# Altium schematic symbol library SCH - MCU - NUVOTON - NUVOTON M484KIDAE.SchLib: 1 symbol
Pins are listed as number, name and electrical type; pins without a type are passive.

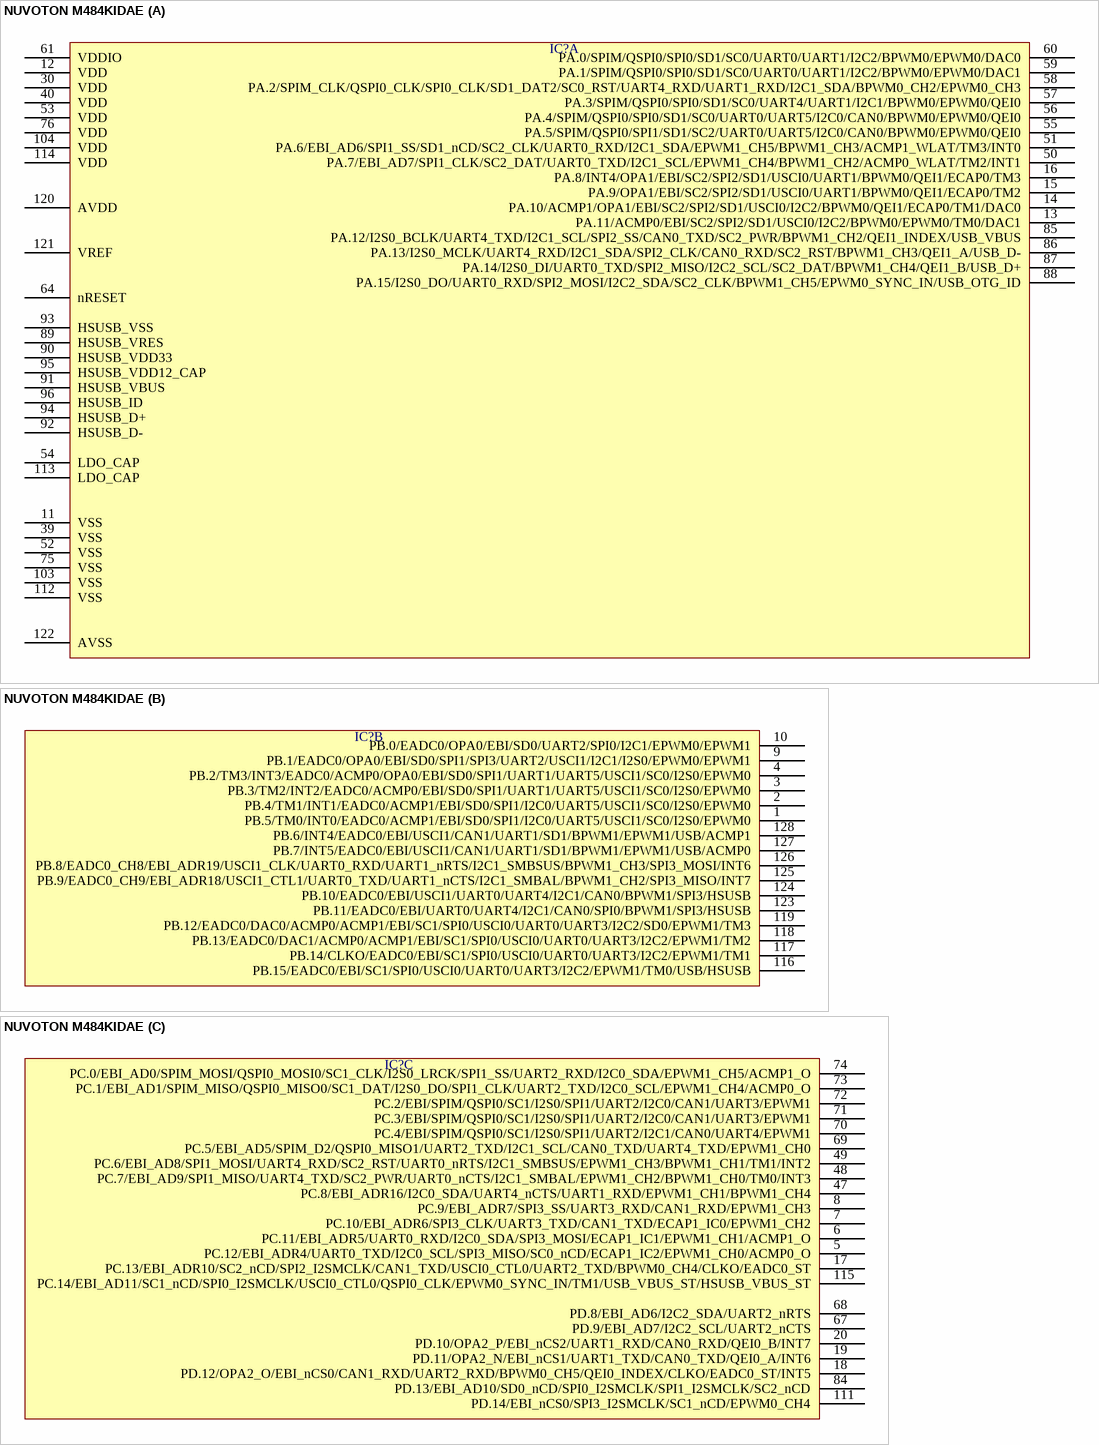
[diagram p0: symbol NUVOTON M484KIDAE]

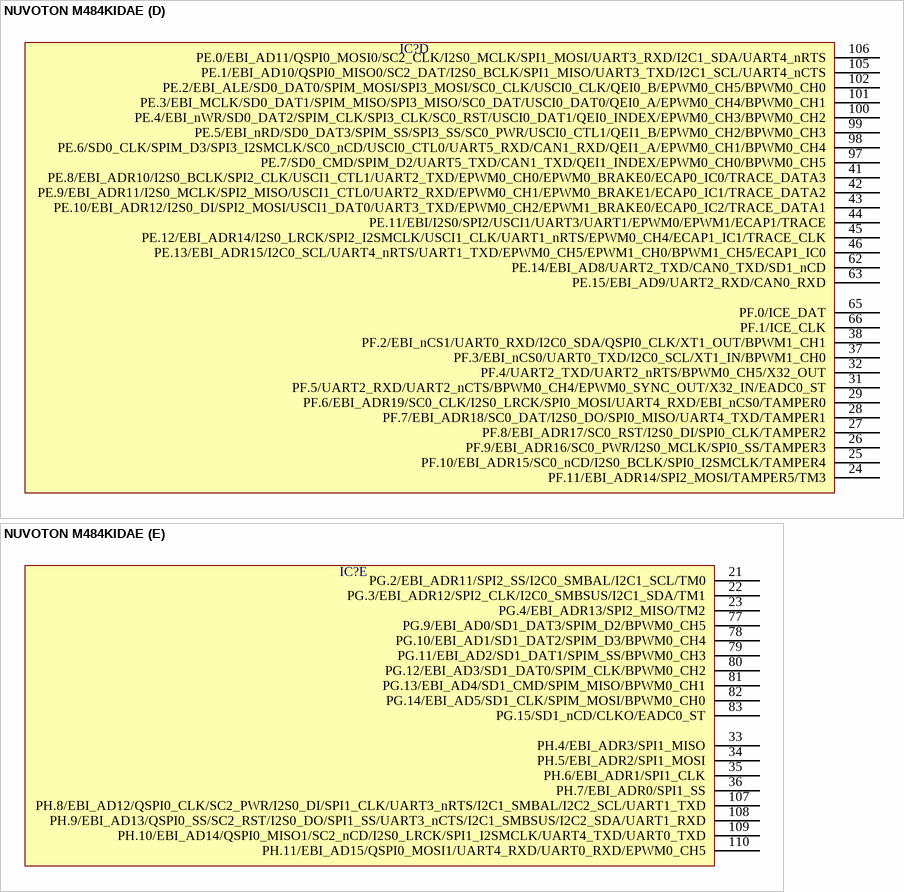
[diagram p1: symbol NUVOTON M484KIDAE]

## NUVOTON M484KIDAE
designator IC?  (value not drawn)
part A pins: 11 VSS, 12 VDD, 13 PA.11/ACMP0/EBI/SC2/SPI2/SD1/USCI0/I2C2/BPWM0/EPWM0/TM0/DAC1, 14 PA.10/ACMP1/OPA1/EBI/SC2/SPI2/SD1/USCI0/I2C2/BPWM0/QEI1/ECAP0/TM1/DAC0, 15 PA.9/OPA1/EBI/SC2/SPI2/SD1/USCI0/UART1/BPWM0/QEI1/ECAP0/TM2, 16 PA.8/INT4/OPA1/EBI/SC2/SPI2/SD1/USCI0/UART1/BPWM0/QEI1/ECAP0/TM3, 30 VDD, 39 VSS, 40 VDD, 50 PA.7/EBI_AD7/SPI1_CLK/SC2_DAT/UART0_TXD/I2C1_SCL/EPWM1_CH4/BPWM1_CH2/ACMP0_WLAT/TM2/INT1, 51 PA.6/EBI_AD6/SPI1_SS/SD1_nCD/SC2_CLK/UART0_RXD/I2C1_SDA/EPWM1_CH5/BPWM1_CH3/ACMP1_WLAT/TM3/INT0, 52 VSS, 53 VDD, 54 LDO_CAP, 55 PA.5/SPIM/QSPI0/SPI1/SD1/SC2/UART0/UART5/I2C0/CAN0/BPWM0/EPWM0/QEI0, 56 PA.4/SPIM/QSPI0/SPI0/SD1/SC0/UART0/UART5/I2C0/CAN0/BPWM0/EPWM0/QEI0, 57 PA.3/SPIM/QSPI0/SPI0/SD1/SC0/UART4/UART1/I2C1/BPWM0/EPWM0/QEI0, 58 PA.2/SPIM_CLK/QSPI0_CLK/SPI0_CLK/SD1_DAT2/SC0_RST/UART4_RXD/UART1_RXD/I2C1_SDA/BPWM0_CH2/EPWM0_CH3, 59 PA.1/SPIM/QSPI0/SPI0/SD1/SC0/UART0/UART1/I2C2/BPWM0/EPWM0/DAC1, 60 PA.0/SPIM/QSPI0/SPI0/SD1/SC0/UART0/UART1/I2C2/BPWM0/EPWM0/DAC0, 61 VDDIO, 64 nRESET, 75 VSS, 76 VDD, 85 PA.12/I2S0_BCLK/UART4_TXD/I2C1_SCL/SPI2_SS/CAN0_TXD/SC2_PWR/BPWM1_CH2/QEI1_INDEX/USB_VBUS, 86 PA.13/I2S0_MCLK/UART4_RXD/I2C1_SDA/SPI2_CLK/CAN0_RXD/SC2_RST/BPWM1_CH3/QEI1_A/USB_D-, 87 PA.14/I2S0_DI/UART0_TXD/SPI2_MISO/I2C2_SCL/SC2_DAT/BPWM1_CH4/QEI1_B/USB_D+, 88 PA.15/I2S0_DO/UART0_RXD/SPI2_MOSI/I2C2_SDA/SC2_CLK/BPWM1_CH5/EPWM0_SYNC_IN/USB_OTG_ID, 89 HSUSB_VRES, 90 HSUSB_VDD33, 91 HSUSB_VBUS, 92 HSUSB_D-, 93 HSUSB_VSS, 94 HSUSB_D+, 95 HSUSB_VDD12_CAP, 96 HSUSB_ID, 103 VSS, 104 VDD, 112 VSS, 113 LDO_CAP, 114 VDD, 120 AVDD, 121 VREF, 122 AVSS
part B pins: 1 PB.5/TM0/INT0/EADC0/ACMP1/EBI/SD0/SPI1/I2C0/UART5/USCI1/SC0/I2S0/EPWM0, 2 PB.4/TM1/INT1/EADC0/ACMP1/EBI/SD0/SPI1/I2C0/UART5/USCI1/SC0/I2S0/EPWM0, 3 PB.3/TM2/INT2/EADC0/ACMP0/EBI/SD0/SPI1/UART1/UART5/USCI1/SC0/I2S0/EPWM0, 4 PB.2/TM3/INT3/EADC0/ACMP0/OPA0/EBI/SD0/SPI1/UART1/UART5/USCI1/SC0/I2S0/EPWM0, 9 PB.1/EADC0/OPA0/EBI/SD0/SPI1/SPI3/UART2/USCI1/I2C1/I2S0/EPWM0/EPWM1, 10 PB.0/EADC0/OPA0/EBI/SD0/UART2/SPI0/I2C1/EPWM0/EPWM1, 116 PB.15/EADC0/EBI/SC1/SPI0/USCI0/UART0/UART3/I2C2/EPWM1/TM0/USB/HSUSB, 117 PB.14/CLKO/EADC0/EBI/SC1/SPI0/USCI0/UART0/UART3/I2C2/EPWM1/TM1, 118 PB.13/EADC0/DAC1/ACMP0/ACMP1/EBI/SC1/SPI0/USCI0/UART0/UART3/I2C2/EPWM1/TM2, 119 PB.12/EADC0/DAC0/ACMP0/ACMP1/EBI/SC1/SPI0/USCI0/UART0/UART3/I2C2/SD0/EPWM1/TM3, 123 PB.11/EADC0/EBI/UART0/UART4/I2C1/CAN0/SPI0/BPWM1/SPI3/HSUSB, 124 PB.10/EADC0/EBI/USCI1/UART0/UART4/I2C1/CAN0/BPWM1/SPI3/HSUSB, 125 PB.9/EADC0_CH9/EBI_ADR18/USCI1_CTL1/UART0_TXD/UART1_nCTS/I2C1_SMBAL/BPWM1_CH2/SPI3_MISO/INT7, 126 PB.8/EADC0_CH8/EBI_ADR19/USCI1_CLK/UART0_RXD/UART1_nRTS/I2C1_SMBSUS/BPWM1_CH3/SPI3_MOSI/INT6, 127 PB.7/INT5/EADC0/EBI/USCI1/CAN1/UART1/SD1/BPWM1/EPWM1/USB/ACMP0, 128 PB.6/INT4/EADC0/EBI/USCI1/CAN1/UART1/SD1/BPWM1/EPWM1/USB/ACMP1
part C pins: 5 PC.12/EBI_ADR4/UART0_TXD/I2C0_SCL/SPI3_MISO/SC0_nCD/ECAP1_IC2/EPWM1_CH0/ACMP0_O, 6 PC.11/EBI_ADR5/UART0_RXD/I2C0_SDA/SPI3_MOSI/ECAP1_IC1/EPWM1_CH1/ACMP1_O, 7 PC.10/EBI_ADR6/SPI3_CLK/UART3_TXD/CAN1_TXD/ECAP1_IC0/EPWM1_CH2, 8 PC.9/EBI_ADR7/SPI3_SS/UART3_RXD/CAN1_RXD/EPWM1_CH3, 17 PC.13/EBI_ADR10/SC2_nCD/SPI2_I2SMCLK/CAN1_TXD/USCI0_CTL0/UART2_TXD/BPWM0_CH4/CLKO/EADC0_ST, 18 PD.12/OPA2_O/EBI_nCS0/CAN1_RXD/UART2_RXD/BPWM0_CH5/QEI0_INDEX/CLKO/EADC0_ST/INT5, 19 PD.11/OPA2_N/EBI_nCS1/UART1_TXD/CAN0_TXD/QEI0_A/INT6, 20 PD.10/OPA2_P/EBI_nCS2/UART1_RXD/CAN0_RXD/QEI0_B/INT7, 47 PC.8/EBI_ADR16/I2C0_SDA/UART4_nCTS/UART1_RXD/EPWM1_CH1/BPWM1_CH4, 48 PC.7/EBI_AD9/SPI1_MISO/UART4_TXD/SC2_PWR/UART0_nCTS/I2C1_SMBAL/EPWM1_CH2/BPWM1_CH0/TM0/INT3, 49 PC.6/EBI_AD8/SPI1_MOSI/UART4_RXD/SC2_RST/UART0_nRTS/I2C1_SMBSUS/EPWM1_CH3/BPWM1_CH1/TM1/INT2, 67 PD.9/EBI_AD7/I2C2_SCL/UART2_nCTS, 68 PD.8/EBI_AD6/I2C2_SDA/UART2_nRTS, 69 PC.5/EBI_AD5/SPIM_D2/QSPI0_MISO1/UART2_TXD/I2C1_SCL/CAN0_TXD/UART4_TXD/EPWM1_CH0, 70 PC.4/EBI/SPIM/QSPI0/SC1/I2S0/SPI1/UART2/I2C1/CAN0/UART4/EPWM1, 71 PC.3/EBI/SPIM/QSPI0/SC1/I2S0/SPI1/UART2/I2C0/CAN1/UART3/EPWM1, 72 PC.2/EBI/SPIM/QSPI0/SC1/I2S0/SPI1/UART2/I2C0/CAN1/UART3/EPWM1, 73 PC.1/EBI_AD1/SPIM_MISO/QSPI0_MISO0/SC1_DAT/I2S0_DO/SPI1_CLK/UART2_TXD/I2C0_SCL/EPWM1_CH4/ACMP0_O, 74 PC.0/EBI_AD0/SPIM_MOSI/QSPI0_MOSI0/SC1_CLK/I2S0_LRCK/SPI1_SS/UART2_RXD/I2C0_SDA/EPWM1_CH5/ACMP1_O, 84 PD.13/EBI_AD10/SD0_nCD/SPI0_I2SMCLK/SPI1_I2SMCLK/SC2_nCD, 111 PD.14/EBI_nCS0/SPI3_I2SMCLK/SC1_nCD/EPWM0_CH4, 115 PC.14/EBI_AD11/SC1_nCD/SPI0_I2SMCLK/USCI0_CTL0/QSPI0_CLK/EPWM0_SYNC_IN/TM1/USB_VBUS_ST/HSUSB_VBUS_ST
part D pins: 24 PF.11/EBI_ADR14/SPI2_MOSI/TAMPER5/TM3, 25 PF.10/EBI_ADR15/SC0_nCD/I2S0_BCLK/SPI0_I2SMCLK/TAMPER4, 26 PF.9/EBI_ADR16/SC0_PWR/I2S0_MCLK/SPI0_SS/TAMPER3, 27 PF.8/EBI_ADR17/SC0_RST/I2S0_DI/SPI0_CLK/TAMPER2, 28 PF.7/EBI_ADR18/SC0_DAT/I2S0_DO/SPI0_MISO/UART4_TXD/TAMPER1, 29 PF.6/EBI_ADR19/SC0_CLK/I2S0_LRCK/SPI0_MOSI/UART4_RXD/EBI_nCS0/TAMPER0, 31 PF.5/UART2_RXD/UART2_nCTS/BPWM0_CH4/EPWM0_SYNC_OUT/X32_IN/EADC0_ST, 32 PF.4/UART2_TXD/UART2_nRTS/BPWM0_CH5/X32_OUT, 37 PF.3/EBI_nCS0/UART0_TXD/I2C0_SCL/XT1_IN/BPWM1_CH0, 38 PF.2/EBI_nCS1/UART0_RXD/I2C0_SDA/QSPI0_CLK/XT1_OUT/BPWM1_CH1, 41 PE.8/EBI_ADR10/I2S0_BCLK/SPI2_CLK/USCI1_CTL1/UART2_TXD/EPWM0_CH0/EPWM0_BRAKE0/ECAP0_IC0/TRACE_DATA3, 42 PE.9/EBI_ADR11/I2S0_MCLK/SPI2_MISO/USCI1_CTL0/UART2_RXD/EPWM0_CH1/EPWM0_BRAKE1/ECAP0_IC1/TRACE_DATA2, 43 PE.10/EBI_ADR12/I2S0_DI/SPI2_MOSI/USCI1_DAT0/UART3_TXD/EPWM0_CH2/EPWM1_BRAKE0/ECAP0_IC2/TRACE_DATA1, 44 PE.11/EBI/I2S0/SPI2/USCI1/UART3/UART1/EPWM0/EPWM1/ECAP1/TRACE, 45 PE.12/EBI_ADR14/I2S0_LRCK/SPI2_I2SMCLK/USCI1_CLK/UART1_nRTS/EPWM0_CH4/ECAP1_IC1/TRACE_CLK, 46 PE.13/EBI_ADR15/I2C0_SCL/UART4_nRTS/UART1_TXD/EPWM0_CH5/EPWM1_CH0/BPWM1_CH5/ECAP1_IC0, 62 PE.14/EBI_AD8/UART2_TXD/CAN0_TXD/SD1_nCD, 63 PE.15/EBI_AD9/UART2_RXD/CAN0_RXD, 65 PF.0/ICE_DAT, 66 PF.1/ICE_CLK, 97 PE.7/SD0_CMD/SPIM_D2/UART5_TXD/CAN1_TXD/QEI1_INDEX/EPWM0_CH0/BPWM0_CH5, 98 PE.6/SD0_CLK/SPIM_D3/SPI3_I2SMCLK/SC0_nCD/USCI0_CTL0/UART5_RXD/CAN1_RXD/QEI1_A/EPWM0_CH1/BPWM0_CH4, 99 PE.5/EBI_nRD/SD0_DAT3/SPIM_SS/SPI3_SS/SC0_PWR/USCI0_CTL1/QEI1_B/EPWM0_CH2/BPWM0_CH3, 100 PE.4/EBI_nWR/SD0_DAT2/SPIM_CLK/SPI3_CLK/SC0_RST/USCI0_DAT1/QEI0_INDEX/EPWM0_CH3/BPWM0_CH2, 101 PE.3/EBI_MCLK/SD0_DAT1/SPIM_MISO/SPI3_MISO/SC0_DAT/USCI0_DAT0/QEI0_A/EPWM0_CH4/BPWM0_CH1, 102 PE.2/EBI_ALE/SD0_DAT0/SPIM_MOSI/SPI3_MOSI/SC0_CLK/USCI0_CLK/QEI0_B/EPWM0_CH5/BPWM0_CH0, 105 PE.1/EBI_AD10/QSPI0_MISO0/SC2_DAT/I2S0_BCLK/SPI1_MISO/UART3_TXD/I2C1_SCL/UART4_nCTS, 106 PE.0/EBI_AD11/QSPI0_MOSI0/SC2_CLK/I2S0_MCLK/SPI1_MOSI/UART3_RXD/I2C1_SDA/UART4_nRTS
part E pins: 21 PG.2/EBI_ADR11/SPI2_SS/I2C0_SMBAL/I2C1_SCL/TM0, 22 PG.3/EBI_ADR12/SPI2_CLK/I2C0_SMBSUS/I2C1_SDA/TM1, 23 PG.4/EBI_ADR13/SPI2_MISO/TM2, 33 PH.4/EBI_ADR3/SPI1_MISO, 34 PH.5/EBI_ADR2/SPI1_MOSI, 35 PH.6/EBI_ADR1/SPI1_CLK, 36 PH.7/EBI_ADR0/SPI1_SS, 77 PG.9/EBI_AD0/SD1_DAT3/SPIM_D2/BPWM0_CH5, 78 PG.10/EBI_AD1/SD1_DAT2/SPIM_D3/BPWM0_CH4, 79 PG.11/EBI_AD2/SD1_DAT1/SPIM_SS/BPWM0_CH3, 80 PG.12/EBI_AD3/SD1_DAT0/SPIM_CLK/BPWM0_CH2, 81 PG.13/EBI_AD4/SD1_CMD/SPIM_MISO/BPWM0_CH1, 82 PG.14/EBI_AD5/SD1_CLK/SPIM_MOSI/BPWM0_CH0, 83 PG.15/SD1_nCD/CLKO/EADC0_ST, 107 PH.8/EBI_AD12/QSPI0_CLK/SC2_PWR/I2S0_DI/SPI1_CLK/UART3_nRTS/I2C1_SMBAL/I2C2_SCL/UART1_TXD, 108 PH.9/EBI_AD13/QSPI0_SS/SC2_RST/I2S0_DO/SPI1_SS/UART3_nCTS/I2C1_SMBSUS/I2C2_SDA/UART1_RXD, 109 PH.10/EBI_AD14/QSPI0_MISO1/SC2_nCD/I2S0_LRCK/SPI1_I2SMCLK/UART4_TXD/UART0_TXD, 110 PH.11/EBI_AD15/QSPI0_MOSI1/UART4_RXD/UART0_RXD/EPWM0_CH5